# EAGLE library part HEADER_2X5 (library heck)
PIN HEADER
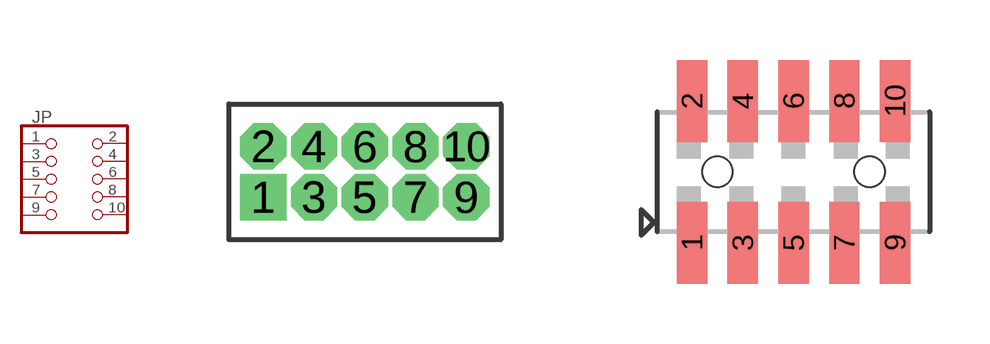
[diagram p1: symbol with the pads of HEADER_50MIL_2X5_PTH; footprints HEADER_50MIL_2X5_PTH, HEADER_SOCKET_50MIL_2X5_SMD]

Designator prefix JP

## HEADER_2X5MALE_PTH  [HEADER_50MIL_2X5_PTH]
1  1  pas
2  2  pas
3  3  pas
4  4  pas
5  5  pas
6  6  pas
7  7  pas
8  8  pas
9  9  pas
10  10  pas

## HEADER_2X5FEMALE_SMD  [HEADER_SOCKET_50MIL_2X5_SMD]
Pads as for HEADER_50MIL_2X5_PTH

## Footprint HEADER_50MIL_2X5_PTH (pad centres in mm)
PIN HEADER
drill 0.65 pad 1.05 square: 1 -2.54,-0.635
drill 0.65 pad 1.05 octagon: 2 -2.54,0.635; 3 -1.27,-0.635; 4 -1.27,0.635; 5 0,-0.635; 6 0,0.635; 7 1.27,-0.635; 8 1.27,0.635; 9 2.54,-0.635; 10 2.54,0.635

## Footprint HEADER_SOCKET_50MIL_2X5_SMD (pad centres in mm)
smd 0.76 x 2.05: 1 -2.54,-1.775; 2 -2.54,1.775; 3 -1.27,-1.775; 4 -1.27,1.775; 5 0,-1.775; 6 0,1.775; 7 1.27,-1.775; 8 1.27,1.775; 9 2.54,-1.775; 10 2.54,1.775
hole 0.76 at -1.905,0
hole 0.76 at 1.905,0